# Altium schematic symbol library misc.SchLib: 4 symbols
Pins are listed as number, name and electrical type; pins without a type are passive.

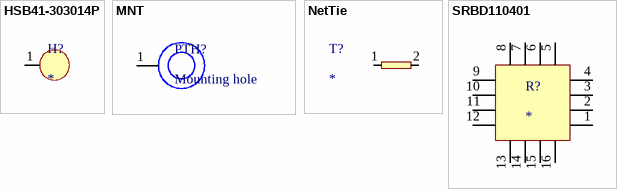
[diagram p0: symbols HSB41-303014P to SRBD110401]

## HSB41-303014P
designator H?
footprint HSB41-303014P
pins: 1 GND

## MNT
designator PTH?, comment Mounting hole
footprint MNT
pins: 1

## NetTie
designator T?  (net tie, no BOM)
footprint NetTie
pins: 1, 2

## SRBD110401
designator R?
Trimmer Resistor
footprint SRBD110401
pins: 1, 2, 3, 4, 5, 6, 7, 8, 9, 10, 11, 12, 13, 14, 15, 16